# Altium schematic symbol library TL3315NF100Q.SchLib: 1 symbol
Pins are listed as number, name and electrical type; pins without a type are passive.

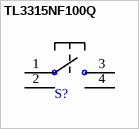
[diagram p0: symbol TL3315NF100Q]

## TL3315NF100Q
designator S?  (value not drawn)
SWITCH TACTILE SPST-NO 0.05A 15V; MF: E-Switch; MP: TL3315NF100Q; Package: None; Availability: Good; Price: 0.13 USD; Value: *
footprint TL3315NF100Q
pins: 1 P$1, 2 P$1, 3 P$2, 4 P$2